# Altium schematic symbol library KMR232NG_ULC_LFS.SchLib: 1 symbol
Pins are listed as number, name and electrical type; pins without a type are passive.

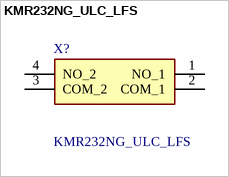
[diagram p0: symbol KMR232NG_ULC_LFS]

## KMR232NG_ULC_LFS
designator X?
Tactile Switch SPST-NO Top Actuated Surface Mount 0.05A @ 32VDC -40C ~ 85C; Manufacturer_Name: C & K COMPONENTS; Manufacturer_Part_Number: KMR232NG ULC LFS; Geometry.Height: 2.7mm; Mouser Part Number: 611-KMR232NGULCLFS; Mouser Price/Stock: https://www.mouser.co.uk/ProductDetail/CK/KMR232NG-ULC-LFS?qs=3gW96gqhLbq2FY2oEdURkw%3D%3D; Arrow Part Number: KMR232NG ULC LFS; Arrow Price/Stock: https://www.arrow.com/en/products/kmr232ngulclfs/ck?region=nac; Datasheet Link: https://www.vishay.com/docs/96283/vs-mbr2035_45ct-m3.pdf
footprint KMR232NGULCLFS
pins: 1 NO_1, 2 COM_1, 3 COM_2, 4 NO_2